# EAGLE library part STC15F204AE2 (library OctoWatch)
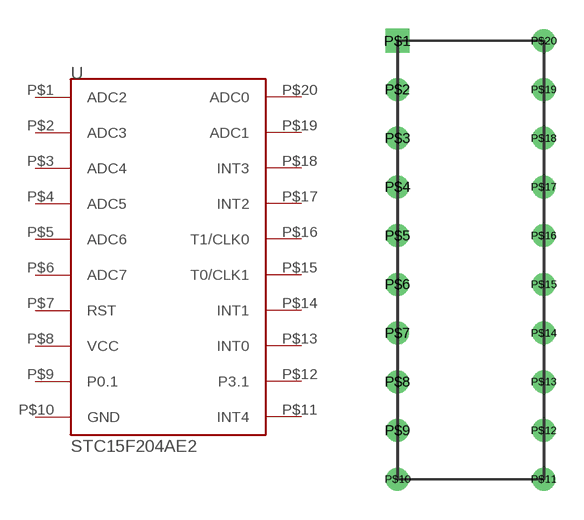
[diagram p2: symbol with the pads of STC15F204AE2; footprint STC15F204AE2]

Designator prefix -

## STC15F204AE2  [STC15F204AE2]
P$1  ADC2
P$2  ADC3
P$3  ADC4
P$4  ADC5
P$5  ADC6
P$6  ADC7
P$7  RST
P$8  VCC
P$9  P0.1
P$10  GND
P$11  INT4
P$12  P3.1
P$13  INT0
P$14  INT1
P$15  T0/CLK1
P$16  T1/CLK0
P$17  INT2
P$18  INT3
P$19  ADC1
P$20  ADC0

## Footprint STC15F204AE2 (pad centres in mm)
15L204EA (Dual Inline Package DIP-20)
drill 0.75 square: P$1 -12.7,10.16
drill 0.7: P$2 -12.7,7.62; P$3 -12.7,5.08; P$4 -12.7,2.54; P$5 -12.7,0; P$6 -12.7,-2.54; P$7 -12.7,-5.08; P$8 -12.7,-7.62; P$9 -12.7,-10.16; P$10 -12.7,-12.7; P$11 -5.08,-12.7; P$12 -5.08,-10.16; P$13 -5.08,-7.62; P$14 -5.08,-5.08; P$15 -5.08,-2.54; P$16 -5.08,0; P$17 -5.08,2.54; P$18 -5.08,5.08; P$19 -5.08,7.62; P$20 -5.08,10.16